# EAGLE library part CTRLS_CONNECTOR (library snes_mb)
Front panel controllers connector
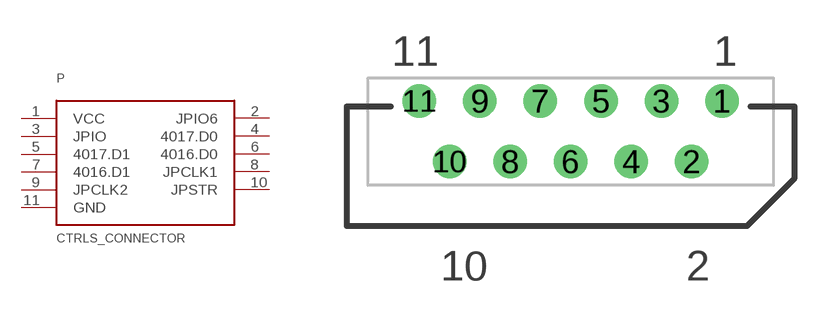
[diagram p7: symbol with the pads of CTRLS_CONNECTOR; footprint CTRLS_CONNECTOR]

Designator prefix P

## CTRLS_CONNECTOR  [CTRLS_CONNECTOR]
1  VCC  pwr
2  JPIO6
3  JPIO
4  4017.D0
5  4017.D1
6  4016.D0
7  4016.D1
8  JPCLK1
9  JPCLK2
10  JPSTR
11  GND  pwr

## Footprint CTRLS_CONNECTOR (pad centres in mm)
drill 0.9 pad 1.4: 1 6.35,2.54; 2 5.08,0; 3 3.81,2.54; 4 2.54,0; 5 1.27,2.54; 6 0,0; 7 -1.27,2.54; 8 -2.54,0; 9 -3.81,2.54; 10 -5.08,0; 11 -6.35,2.54